# Altium integrated library ADE7753.IntLib: 1 symbol
Pins are listed as number, name and electrical type; pins without a type are passive.

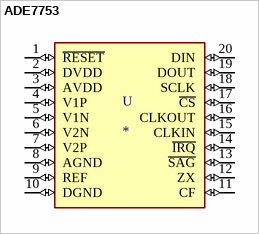
[diagram p0: symbol ADE7753]

## ADE7753
designator U
IC ENERGY METERING 1PHASE 20SSOP; MP: ADE7753; MF: Analog Devices; Digi-Key_Part_Number: ADE7753ARSZRLCT-ND; SnapEDA_Link: https://www.snapeda.com/parts/ADE7753/Analog%20Devices%20Inc./view-part/3209960/?ref=snap; Package: SSOP-20 Analog Devices; Value: *
footprint SSOP-20
footprint ADE7753_alter
pins: 1 ~{RESET} (io), 2 DVDD (io), 3 AVDD (io), 4 V1P (io), 5 V1N (io), 6 V2N (io), 7 V2P (io), 8 AGND (io), 9 REF (io), 10 DGND (io), 11 CF (io), 12 ZX (io), 13 ~{SAG} (io), 14 ~{IRQ} (io), 15 CLKIN (io), 16 CLKOUT (io), 17 ~{CS} (io), 18 SCLK (io), 19 DOUT (io), 20 DIN (io)